# EAGLE library part 80C552 (library philips)
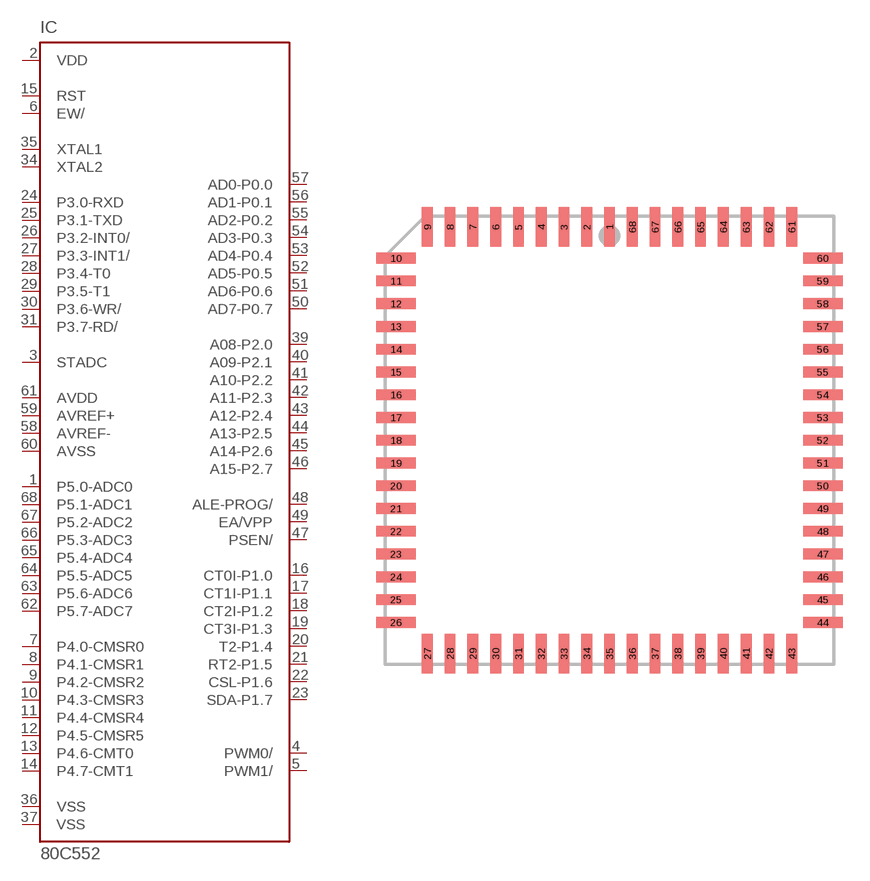
[diagram p1: symbol with the pads of PLCC68; footprint PLCC68]

Designator prefix IC

## 80C552  [PLCC68]
1  P5.0-ADC0
2  VDD  pwr
3  STADC  in
4  PWM0/  out
5  PWM1/  out
6  EW/  in
7  P4.0-CMSR0
8  P4.1-CMSR1
9  P4.2-CMSR2
10  P4.3-CMSR3
11  P4.4-CMSR4
12  P4.5-CMSR5
13  P4.6-CMT0
14  P4.7-CMT1
15  RST
16  CT0I-P1.0
17  CT1I-P1.1
18  CT2I-P1.2
19  CT3I-P1.3
20  T2-P1.4
21  RT2-P1.5
22  CSL-P1.6
23  SDA-P1.7
24  P3.0-RXD
25  P3.1-TXD
26  P3.2-INT0/
27  P3.3-INT1/
28  P3.4-T0
29  P3.5-T1
30  P3.6-WR/
31  P3.7-RD/
32  NC1  nc
33  NC2  nc
34  XTAL2  out
35  XTAL1  in
36  VSS  pwr
37  VSS  pwr
38  NC3  nc
39  A08-P2.0
40  A09-P2.1
41  A10-P2.2
42  A11-P2.3
43  A12-P2.4
44  A13-P2.5
45  A14-P2.6
46  A15-P2.7
47  PSEN/  out
48  ALE-PROG/  out
49  EA/VPP  in
50  AD7-P0.7
51  AD6-P0.6
52  AD5-P0.5
53  AD4-P0.4
54  AD3-P0.3
55  AD2-P0.2
56  AD1-P0.1
57  AD0-P0.0
58  AVREF-  in
59  AVREF+  in
60  AVSS  in
61  AVDD  in
62  P5.7-ADC7
63  P5.6-ADC6
64  P5.5-ADC5
65  P5.4-ADC4
66  P5.3-ADC3
67  P5.2-ADC2
68  P5.1-ADC1

## Footprint PLCC68 (pad centres in mm)
smd 0.6 x 2.2: 1 0,11.9; 2 -1.27,11.9; 3 -2.54,11.9; 4 -3.81,11.9; 5 -5.08,11.9; 6 -6.35,11.9; 7 -7.62,11.9; 8 -8.89,11.9; 9 -10.16,11.9; 27 -10.16,-11.9; 28 -8.89,-11.9; 29 -7.62,-11.9; 30 -6.35,-11.9; 31 -5.08,-11.9; 32 -3.81,-11.9; 33 -2.54,-11.9; 34 -1.27,-11.9; 35 0,-11.9; 36 1.27,-11.9; 37 2.54,-11.9; 38 3.81,-11.9; 39 5.08,-11.9; 40 6.35,-11.9; 41 7.62,-11.9; 42 8.89,-11.9; 43 10.16,-11.9; 61 10.16,11.9; 62 8.89,11.9; 63 7.62,11.9; 64 6.35,11.9; 65 5.08,11.9; 66 3.81,11.9; 67 2.54,11.9; 68 1.27,11.9
smd 2.2 x 0.6: 10 -11.9,10.16; 11 -11.9,8.89; 12 -11.9,7.62; 13 -11.9,6.35; 14 -11.9,5.08; 15 -11.9,3.81; 16 -11.9,2.54; 17 -11.9,1.27; 18 -11.9,0; 19 -11.9,-1.27; 20 -11.9,-2.54; 21 -11.9,-3.81; 22 -11.9,-5.08; 23 -11.9,-6.35; 24 -11.9,-7.62; 25 -11.9,-8.89; 26 -11.9,-10.16; 44 11.9,-10.16; 45 11.9,-8.89; 46 11.9,-7.62; 47 11.9,-6.35; 48 11.9,-5.08; 49 11.9,-3.81; 50 11.9,-2.54; 51 11.9,-1.27; 52 11.9,0; 53 11.9,1.27; 54 11.9,2.54; 55 11.9,3.81; 56 11.9,5.08; 57 11.9,6.35; 58 11.9,7.62; 59 11.9,8.89; 60 11.9,10.16